# EAGLE library part KK-156-7 (library nw2s)
KK 156 HEADER Source: http://www.molex.com/pdm_docs/sd/026604100_sd.pdf
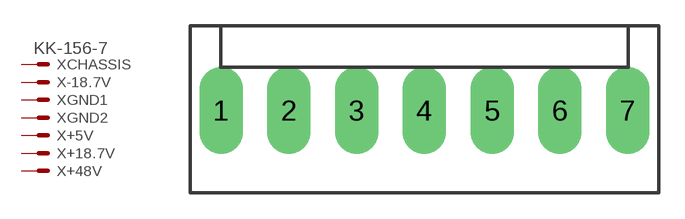
[diagram p21: symbol with the pads of KK-156-7; footprint KK-156-7]

Designator prefix X; gates CHASSIS=MV -18.7V=M GND1=M GND2=M +5V=M +18.7V=M +48V=M

## KK-156-7 (OC_FARNELL: unknown; OC_NEWARK: unknown)  [KK-156-7]
1  CHASSIS:S  pas
2  -18.7V:S  pas
3  GND1:S  pas
4  GND2:S  pas
5  +5V:S  pas
6  +18.7V:S  pas
7  +48V:S  pas

## Footprint KK-156-7 (pad centres in mm)
KK 156 HEADER Source: http://www.molex.com/pdm_docs/sd/026604100_sd.pdf
drill 1.7 pad 2.184 long: 1 -11.88,0; 2 -7.92,0; 3 -3.96,0; 4 0,0; 5 3.96,0; 6 7.92,0; 7 11.88,0